# Altium schematic symbol library PCB_Project (1).SCHLIB: 5 symbols
Pins are listed as number, name and electrical type; pins without a type are passive.

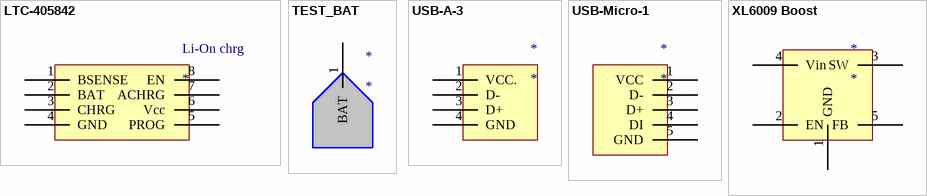
[diagram p0: symbols LTC-405842 to XL6009 Boost]

## LTC-405842
designator Li-On chrg
footprint DFN-8_DD
pins: 1 BSENSE, 2 BAT, 3 CHRG, 4 GND, 5 PROG, 6 Vcc, 7 ACHRG, 8 EN
1 alternate drawing of the same symbol

## TEST_BAT
designator *
pins: 1 BAT

## USB-A-3
designator *
footprint USB3
pins: 1 VCC., 2 D-, 3 D+, 4 GND

## USB-Micro-1
designator *
footprint PCBComponent_1 - duplicate2
pins: 1 VCC, 2 D-, 3 D+, 4 DI, 5 GND

## XL6009 Boost
designator *
footprint DPAK171P1524X485-6N
pins: 1 GND, 2 EN, 3 SW, 4 Vin, 5 FB